# Altium footprint library DO-214AA.PcbLib: 1 footprints
Each footprint in its own frame and in the unit in brackets; x right, y up, seen from the top. Pads: shape width x height; smd on the part's side, far side on the other; paste and mask are expansions set on the pad; w line width, h text height; cw(c..) or ccw(c..) is an arc to the next point about the centre after c.
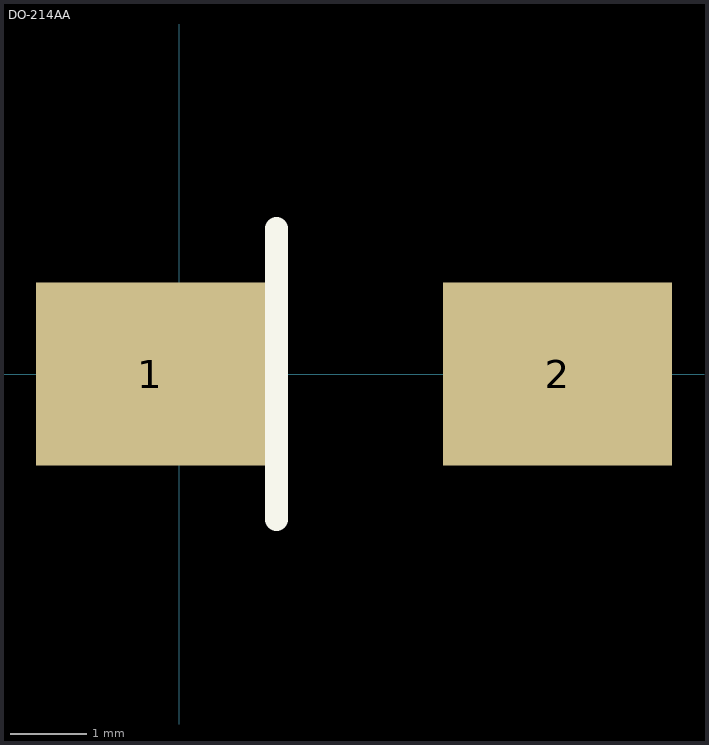
[diagram p0: the footprint, top view; thin cyan lines are the x and y axes]

## DO-214AA [mm]
pads (2):
  rect 3x2.4 smd: 1(-0.381,0) 2(4.953,0)
Top Overlay:
  lines w0.3: 1.27,-1.905 1.27,1.905
3D body "2401LM DO-214AA.STEP": height 2.65, standoff 0, extent -0.532,-1.848 5.068,2.102